# Altium schematic symbol library Diode_Led.SchLib: 1 symbol
Pins are listed as number, name and electrical type; pins without a type are passive.

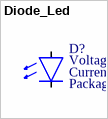
[diagram p0: symbol Diode_Led]

## Diode_Led
designator D?
Component Category: Diode; ComponentLink1Description: Datasheet; ComponentLink1URL: *; ComponentLink2Description: Supplier Link; ComponentLink2URL: *; Manufacturer Part Number: *; Supplier: *; Supplier Part Number: *; Manufacturer: *; Operating Temperature, Min: *℃; Operating Temperature, Max: *℃; Quantity, Min: *; Quantity, Max: *; Price, Min: *; Price, Max: *; Supplier Currency: *; Supplier Link: *; Component Type: Led; Current: *; Voltage: *; Package: *
footprint Diode_Smd_M1608_I0603_Blue
footprint Diode_Smd_M1608_I0603_Green-Yellow
footprint Diode_Smd_M1608_I0603_Green
footprint Diode_Smd_M1608_I0603_Orange1
footprint Diode_Smd_M1608_I0603_Orange2
footprint Diode_Smd_M1608_I0603_Red
footprint Diode_Smd_M1608_I0603_White
footprint Diode_Smd_M1608_I0603_Yellow
pins: A, C
8 alternate drawings of the same symbol